# Altium footprint library KTIR0711S.PcbLib: 3 footprints
Each footprint in its own frame and in the unit in brackets; x right, y up, seen from the top. Pads: shape width x height; smd on the part's side, far side on the other; paste and mask are expansions set on the pad; w line width, h text height; cw(c..) or ccw(c..) is an arc to the next point about the centre after c.
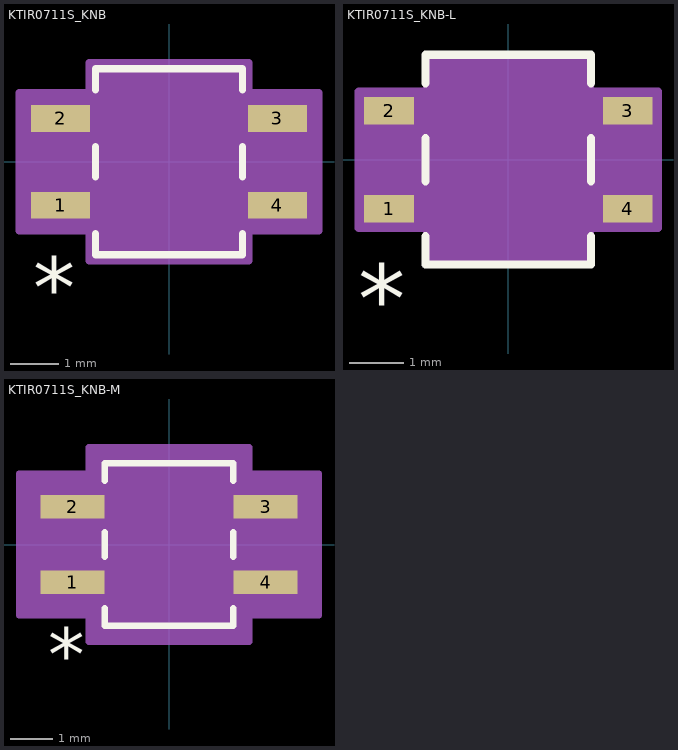
[diagram p0: the footprints below, top view; thin cyan lines are the x and y axes]

## KTIR0711S_KNB [mil]
pads (4):
  rect 48x22 smd paste+0 mask+0: 1(-88.5,-35.5) 2(-88.5,35.5) 3(88.5,35.5) 4(88.5,-35.5)
Top Overlay:
  lines w6: -60,-58.8 -60,-76 60,-76 60,-58.8 ; -60,-12.2 -60,12.2 ; -60,58.8 -60,76 60,76 60,58.8 ; 60,-12.2 60,12.2
  text "*" at -111,-127.5 h50
Mechanical 13:
  lines w0: -12,71 ccw(c0,71) 12,71
  lines w1: -98.5,-45.5 -98.5,-25.5 -55,-25.5 -55,-45.5 -98.5,-45.5 ; -98.5,25.5 -98.5,45.5 -55,45.5 -55,25.5 -98.5,25.5 ; -55,-71 55,-71 55,71 -55,71 -55,-71 ; 55,-45.5 55,-25.5 98.5,-25.5 98.5,-45.5 55,-45.5 ; 55,25.5 55,45.5 98.5,45.5 98.5,25.5 55,25.5
  text "*" at -52.5,-60.5 h50
Mechanical 15:
  region: -65,-56.5 -122.5,-56.5 -122.5,56.5 -65,56.5 -65,81 65,81 65,56.5 122.5,56.5 122.5,-56.5 65,-56.5 65,-81 -65,-81
  lines w6: -122.5,-56.5 -122.5,56.5 -65,56.5 -65,81 65,81 65,56.5 122.5,56.5 122.5,-56.5 65,-56.5 65,-81 -65,-81 -65,-56.5 -122.5,-56.5
3D body "KTIR0711S_KNB.step": height 59.09, standoff 0, extent -98.5,-70.98 98.5,70.98

## KTIR0711S_KNB-L [mil]
pads (4):
  rect 36x20 smd paste+0 mask+0: 1(-86.5,-35.5) 2(-86.5,35.5) 3(86.5,35.5) 4(86.5,-35.5)
Top Overlay:
  lines w6: -60,-55.47 -60,-76 60,-76 60,-55.47 ; -60,-15.53 -60,15.53 ; -60,55.47 -60,76 60,76 60,55.47 ; 60,-15.53 60,15.53
  text "*" at -109,-125.5 h50
Mechanical 13:
  lines w0: -12,71 ccw(c0,71) 12,71
  lines w1: -98.5,-45.5 -98.5,-25.5 -55,-25.5 -55,-45.5 -98.5,-45.5 ; -98.5,25.5 -98.5,45.5 -55,45.5 -55,25.5 -98.5,25.5 ; -55,-71 55,-71 55,71 -55,71 -55,-71 ; 55,-45.5 55,-25.5 98.5,-25.5 98.5,-45.5 55,-45.5 ; 55,25.5 55,45.5 98.5,45.5 98.5,25.5 55,25.5
  text "*" at -52.5,-60.5 h50
Mechanical 15:
  region: -59,-49.5 -108.5,-49.5 -108.5,49.5 -59,49.5 -59,75 59,75 59,49.5 108.5,49.5 108.5,-49.5 59,-49.5 59,-75 -59,-75
  lines w6: -108.5,-49.5 -108.5,49.5 -59,49.5 -59,75 59,75 59,49.5 108.5,49.5 108.5,-49.5 59,-49.5 59,-75 -59,-75 -59,-49.5 -108.5,-49.5
3D body "KTIR0711S_KNB.step": height 59.09, standoff 0, extent -98.5,-70.98 98.5,70.98

## KTIR0711S_KNB-M [mil]
pads (4):
  rect 60x22 smd paste+0 mask+0: 1(-90.5,-35.5) 2(-90.5,35.5) 3(90.5,35.5) 4(90.5,-35.5)
Top Overlay:
  lines w6: -60,-59.59 -60,-76 60,-76 60,-59.59 ; -60,-11.41 -60,11.41 ; -60,59.59 -60,76 60,76 60,59.59 ; 60,-11.41 60,11.41
  text "*" at -113,-127.5 h50
Mechanical 13:
  lines w0: -12,71 ccw(c0,71) 12,71
  lines w1: -98.5,-45.5 -98.5,-25.5 -55,-25.5 -55,-45.5 -98.5,-45.5 ; -98.5,25.5 -98.5,45.5 -55,45.5 -55,25.5 -98.5,25.5 ; -55,-71 55,-71 55,71 -55,71 -55,-71 ; 55,-45.5 55,-25.5 98.5,-25.5 98.5,-45.5 55,-45.5 ; 55,25.5 55,45.5 98.5,45.5 98.5,25.5 55,25.5
  text "*" at -52.5,-60.5 h50
Mechanical 15:
  region: -75,-66.5 -140.5,-66.5 -140.5,66.5 -75,66.5 -75,91 75,91 75,66.5 140.5,66.5 140.5,-66.5 75,-66.5 75,-91 -75,-91
  lines w6: -140.5,-66.5 -140.5,66.5 -75,66.5 -75,91 75,91 75,66.5 140.5,66.5 140.5,-66.5 75,-66.5 75,-91 -75,-91 -75,-66.5 -140.5,-66.5
3D body "KTIR0711S_KNB.step": height 59.09, standoff 0, extent -98.5,-70.98 98.5,70.98